# Altium footprint library C-M001-32_V1.0.PcbLib: 22 footprints (part 1 of 2)
Each footprint in its own frame and in the unit in brackets; x right, y up, seen from the top. Pads: shape width x height; smd on the part's side, far side on the other; paste and mask are expansions set on the pad; w line width, h text height; cw(c..) or ccw(c..) is an arc to the next point about the centre after c.
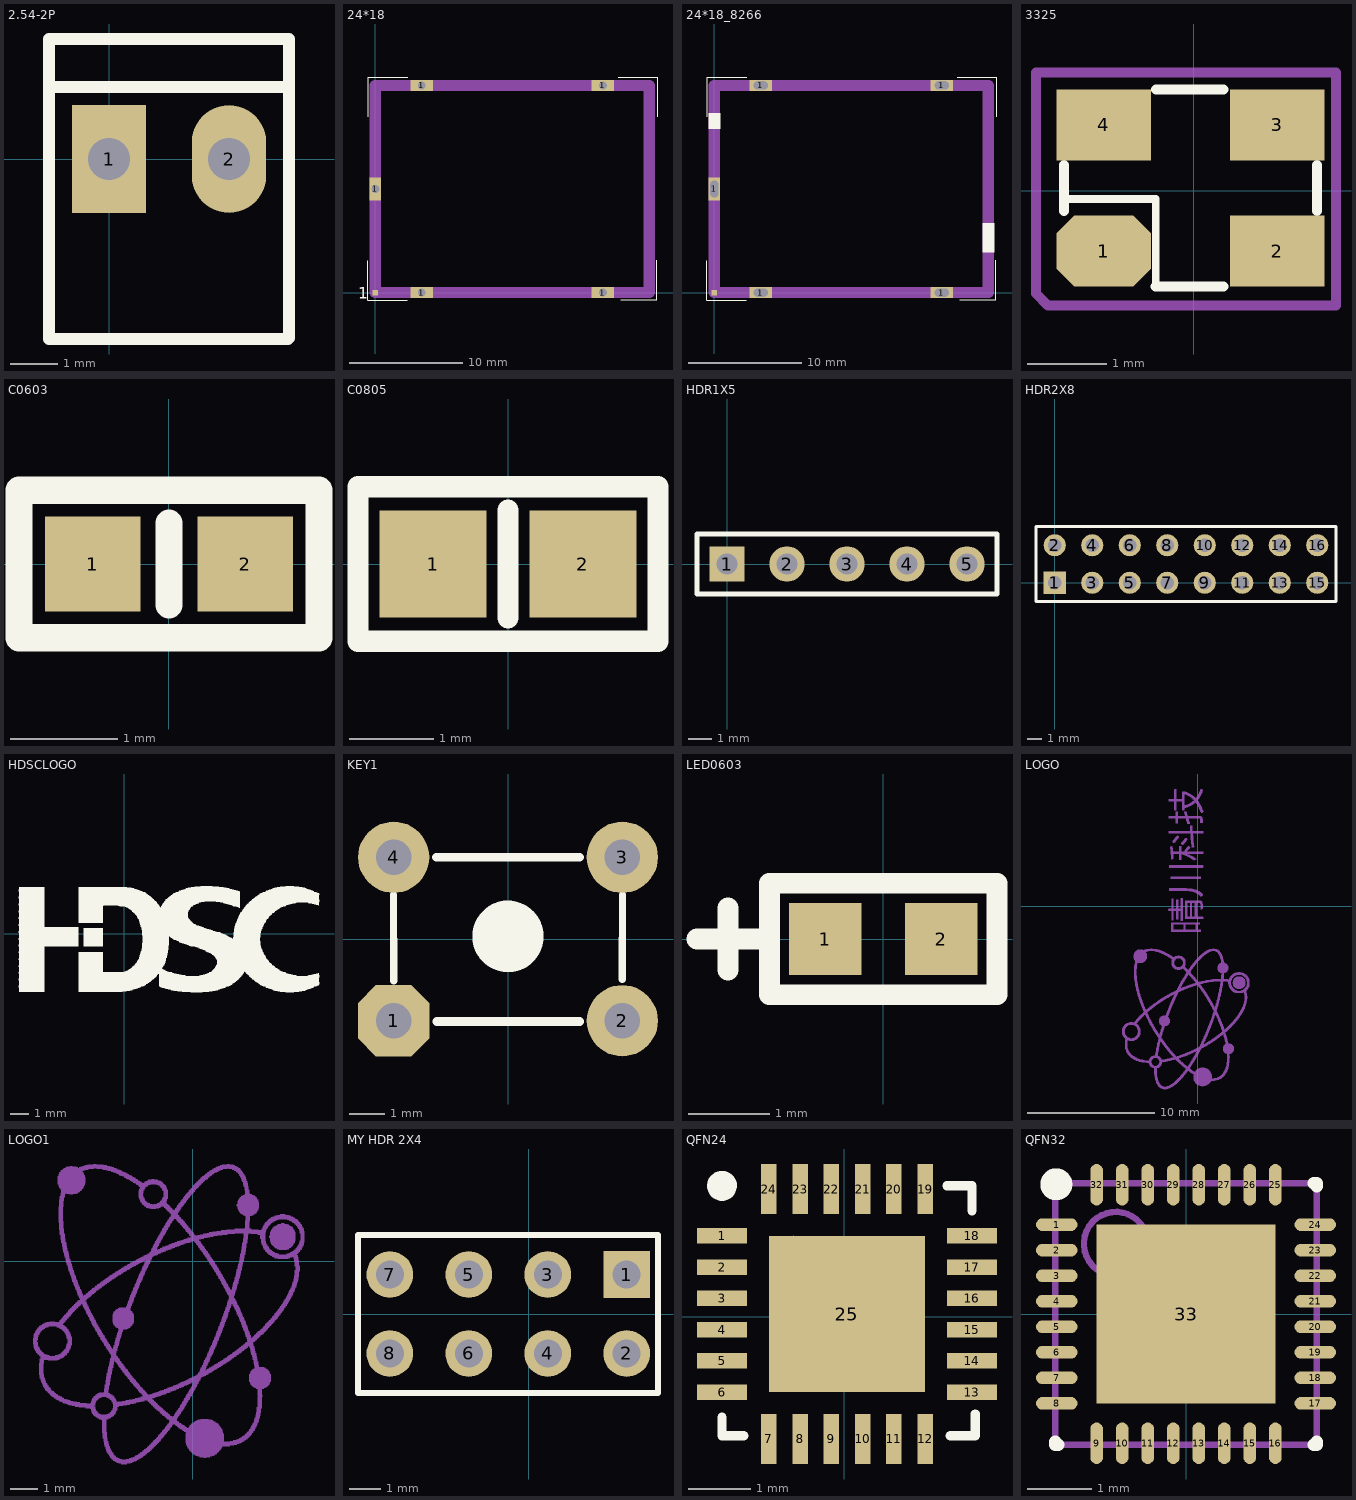
[diagram p0: the footprints below, top view; thin cyan lines are the x and y axes]

## 2.54-2P [mil]
pads (2):
  rect 62x90 hole 35: 1(0,0)
  oval 62x90 hole 35: 2(100,0)
Top Overlay:
  lines w10: -50,60 150,60 ; -50,99.61 -49.61,100 ; -50,-150 -50,100 150,100 150,-149 149,-150 -50,-150

## 24*18 [mm]
pads (6):
  rect 0.5x0.5 smd paste-1 mask+0.05: 1(0,0)
  rect 1x2 hole 0.7 square paste+0 mask+0.05: 1(0,9.15)
  rect 2x1 hole 0.7 square paste+0 mask+0.05: 1(4.1,0) 1(4.1,18.3) 1(20.1,0) 1(20.1,18.3)
Top Overlay:
  lines w0.1: -0.681,2.822 -0.681,-0.678 2.819,-0.678 ; -0.631,15.522 -0.631,19.022 2.869,19.022 ; 21.469,19.022 24.969,19.022 24.969,15.522 ; 21.669,-0.628 24.869,-0.628 24.869,2.872
  text "1" at -1.531,-0.528 h1
Top Solder:
  region: -0.5,-0.188 -0.5,4.9 0.55,4.9 0.55,-0.188
  region: 24.7,-0.5 -0.474,-0.5 -0.474,0.5 24.7,0.5
  region: 24.7,17.8 -0.374,17.8 -0.374,18.8 24.7,18.8
  region: 23.7,-0.488 23.7,18.6 24.7,18.6 24.7,-0.488
  region: -0.5,6.7 -0.5,18.75 0.55,18.75 0.55,6.7
Mechanical 15:
  lines w1: 0,0 0,18.3 24.2,18.3 24.2,0 0,0
3D body: height 1, standoff 0, extent -0.3,-0.3 0.3,0.3

## 24*18_8266 [mm]
pads (6):
  rect 0.5x0.5 smd paste-1 mask+0.05: 1(0,0)
  rect 1x2 hole 0.7 slot 1.5 at 90 deg paste+0 mask+0.05: 1(0,9.15)
  rect 2x1 hole 0.7 slot 1.25 at 0 deg paste+0 mask+0.05: 1(4.1,0) 1(4.1,18.3) 1(20.1,0) 1(20.1,18.3)
Top Overlay:
  rectangle: -0.5,14.45 0.55,15.85
  rectangle: 23.7,3.55 24.75,6.15
  lines w0.1: -0.681,2.822 -0.681,-0.678 2.819,-0.678 ; -0.631,15.522 -0.631,19.022 2.869,19.022 ; 21.469,19.022 24.969,19.022 24.969,15.522 ; 21.669,-0.628 24.869,-0.628 24.869,2.872
Top Solder:
  region: -0.5,15.85 -0.5,18.75 0.55,18.75 0.55,15.85
  region: 23.7,6.15 23.7,18.6 24.7,18.6 24.7,6.15
  region: 24.7,17.8 -0.374,17.8 -0.374,18.8 24.7,18.8
  region: 24.7,-0.5 -0.474,-0.5 -0.474,0.5 24.7,0.5
  region: -0.5,-0.188 -0.5,14.45 0.55,14.45 0.55,-0.188
  region: 23.7,-0.5 23.7,3.55 24.7,3.55 24.7,-0.5
Mechanical 15:
  lines w1: 0,0 24.2,0 24.2,18.3 0,18.3 0,0
3D body: height 1, standoff 0, extent -0.3,-0.3 0.3,0.3

## 3325 [mm]
height 5
pads (4):
  oct 1.2x0.9 smd: 1(-1.143,-0.762)
  rect 1.2x0.9 smd: 2(1.057,-0.762) 3(1.057,0.838) 4(-1.143,0.838)
Top Overlay:
  lines w0.1: -1.643,-0.1 -0.483,-0.1 -0.483,-1.212
  lines w0.127: -1.643,-0.252 -1.643,0.328 ; -0.483,-1.212 0.377,-1.212 ; -0.483,1.288 0.377,1.288 ; 1.557,-0.252 1.557,0.328
Mechanical 14:
  lines w0.127: -2,-1.3 -2,1.5 1.8,1.5 1.8,-1.45 -1.85,-1.45 -2,-1.3
  text ".Designator" at -0.5,-0.1 h0.5

## C0603 [mil]
pads (2):
  rect 35x35 smd: 1(-28,0) 2(28,0)
Top Overlay:
  lines w10: -55,26 -54,27 55,27 55,-27 ; -55,27 -55,-27 54,-27 ; 0,-15 0,15

## C0805 [mil]
pads (2):
  rect 50x50 smd: 1(-35,0) 2(35,0)
Top Overlay:
  lines w10: 0,-25 0,25 ; -70,-36 70,-36 70,36 -70,36 -70,-36

## HDR1X5 [mm]
pads (5):
  rect 1.5x1.5 hole 0.9: 1(0,0)
  round 1.5 hole 0.9: 2(2.54,0) 3(5.08,0) 4(7.62,0) 5(10.16,0)
Top Overlay:
  lines w0.2: -1.27,-1.27 -1.27,1.27 11.43,1.27 11.43,-1.27 -1.27,-1.27

## HDR2X8 [mm] "Connector; Header; 8x2 Position"
pads (16):
  rect 1.5x1.5 hole 0.9: 1(0,0)
  round 1.5 hole 0.9: 2(0,2.54) 3(2.54,0) 4(2.54,2.54) 5(5.08,0) 6(5.08,2.54) 7(7.62,0) 8(7.62,2.54) 9(10.16,0) 10(10.16,2.54) 11(12.7,0) 12(12.7,2.54) 13(15.24,0) 14(15.24,2.54) 15(17.78,0) 16(17.78,2.54)
Top Overlay:
  lines w0.2: -1.27,-1.27 -1.27,3.81 19.05,3.81 19.05,-1.27 -1.27,-1.27

## HDSCLOGO [mm]
Top Overlay:
  drawing of 926 lines, arcs and shapes, not listed

## KEY1 [mil]
pads (4):
  oct 80x80 hole 40: 1(-128,-91.55)
  round 80 hole 40: 2(128,-91.55) 3(128,91.55) 4(-128,91.55)
Top Overlay:
  circle w60: c0,2.94 r10
  lines w7.87: -128,49.75 -127.95,-47.26 ; 127.95,-45.29 128,49.75
  lines w10: -80,91.55 80,91.55 ; -79.72,-92.53 80.28,-92.53

## LED0603 [mil]
pads (2):
  rect 35x35 smd: 1(-28,0) 2(28,0)
Top Overlay:
  lines w10: -90,0 -60,0 ; -75,-15 -75,15 ; -55,26 -54,27 55,27 55,-27 ; -55,27 -55,-27 54,-27

## LOGO [mm]
Bottom Overlay:
  drawing of 3093 lines, arcs and shapes, not listed

## LOGO1 [mm]
Bottom Overlay:
  drawing of 1922 lines, arcs and shapes, not listed
  text "QINGCHUAN" at 6.6,-7.75 h2

## MY HDR 2X4 [mm]
pads (8):
  rect 1.5x1.5 hole 0.9: 1(3.144,1.27)
  round 1.5 hole 0.9: 2(3.144,-1.27) 3(0.604,1.27) 4(0.604,-1.27) 5(-1.936,1.27) 6(-1.936,-1.27) 7(-4.476,1.27) 8(-4.476,-1.27)
Top Overlay:
  lines w0.2: -5.5,-2.54 4.15,-2.54 4.15,2.54 -5.5,2.54 -5.5,-2.54

## QFN24 [mm] "sx1262"
height 1
pads (25):
  rect 0.8x0.25 smd: 1(-1.958,1.297) 2(-1.958,0.797) 3(-1.958,0.297) 4(-1.958,-0.203) 5(-1.958,-0.703) 6(-1.958,-1.203) 13(2.042,-1.203) 14(2.042,-0.703) 15(2.042,-0.203) 16(2.042,0.297) 17(2.042,0.797) 18(2.042,1.297)
  rect 0.25x0.8 smd: 7(-1.208,-1.953) 8(-0.708,-1.953) 9(-0.208,-1.953) 10(0.292,-1.953) 11(0.792,-1.953) 12(1.292,-1.953) 19(1.292,2.047) 20(0.792,2.047) 21(0.292,2.047) 22(-0.208,2.047) 23(-0.708,2.047) 24(-1.208,2.047)
  rect 2.5x2.5 smd: 25(0.042,0.047)
Top Overlay:
  lines w0: -0.808,1.297 -0.808,1.297
  lines w0.15: -1.958,-1.603 -1.958,-1.903 -1.608,-1.903 ; 1.642,2.097 2.042,2.097 2.042,1.697 ; 1.692,-1.903 2.092,-1.903 2.092,-1.553
  lines w0.254: -1.858,2.047 cw(c-1.958,2.097) -1.846,2.097
3D body: height 0.8, standoff 0.02, extent -2.05,-1.923 2.05,2.177

## QFN32 [mm] "QFN, 32-Leads, Body 4.1x4.1mm (max), Pitch 0.40mm, IPC Medium Density"
height 1
pads (33):
  oval 0.65x0.2 smd: 1(-2.025,1.4) 2(-2.025,1) 3(-2.025,0.6) 4(-2.025,0.2) 5(-2.025,-0.2) 6(-2.025,-0.6) 7(-2.025,-1) 8(-2.025,-1.4) 17(2.025,-1.4) 18(2.025,-1) 19(2.025,-0.6) 20(2.025,-0.2) 21(2.025,0.2) 22(2.025,0.6) 23(2.025,1) 24(2.025,1.4)
  oval 0.2x0.65 smd: 9(-1.4,-2.025) 10(-1,-2.025) 11(-0.6,-2.025) 12(-0.2,-2.025) 13(0.2,-2.025) 14(0.6,-2.025) 15(1,-2.025) 16(1.4,-2.025) 25(1.4,2.025) 26(1,2.025) 27(0.6,2.025) 28(0.2,2.025) 29(-0.2,2.025) 30(-0.6,2.025) 31(-1,2.025) 32(-1.4,2.025)
  rect 2.8x2.8 smd: 33(0,0)
Top Overlay:
  circle w0.25: c-2.032,2.032 r0.125
  lines w0.2: -2.05,-2 -2.05,-2.05 -2,-2.05 ; -2.05,2 -2.05,2.05 -2,2.05 ; 2,-2.05 2.05,-2.05 2.05,-2 ; 2,2.05 2.05,2.05 2.05,2
Mechanical 13:
  circle w0.1: c-1.1,1.1 r0.5
  lines w0.1: -2.05,-2.05 2.05,-2.05 2.05,2.05 -2.05,2.05 -2.05,-2.05
Mechanical 15:
  lines w0.1: -0.5,0 0.5,0 ; 0,-0.5 0,0.5
3D body: height 0.8, standoff 0.02, extent -2.05,-2.05 2.05,2.05